# Altium schematic symbol library WE-RJ45 LAN.SchLib: 103 symbols (part 1 of 2)
Pins are listed as number, name and electrical type; pins without a type are passive.

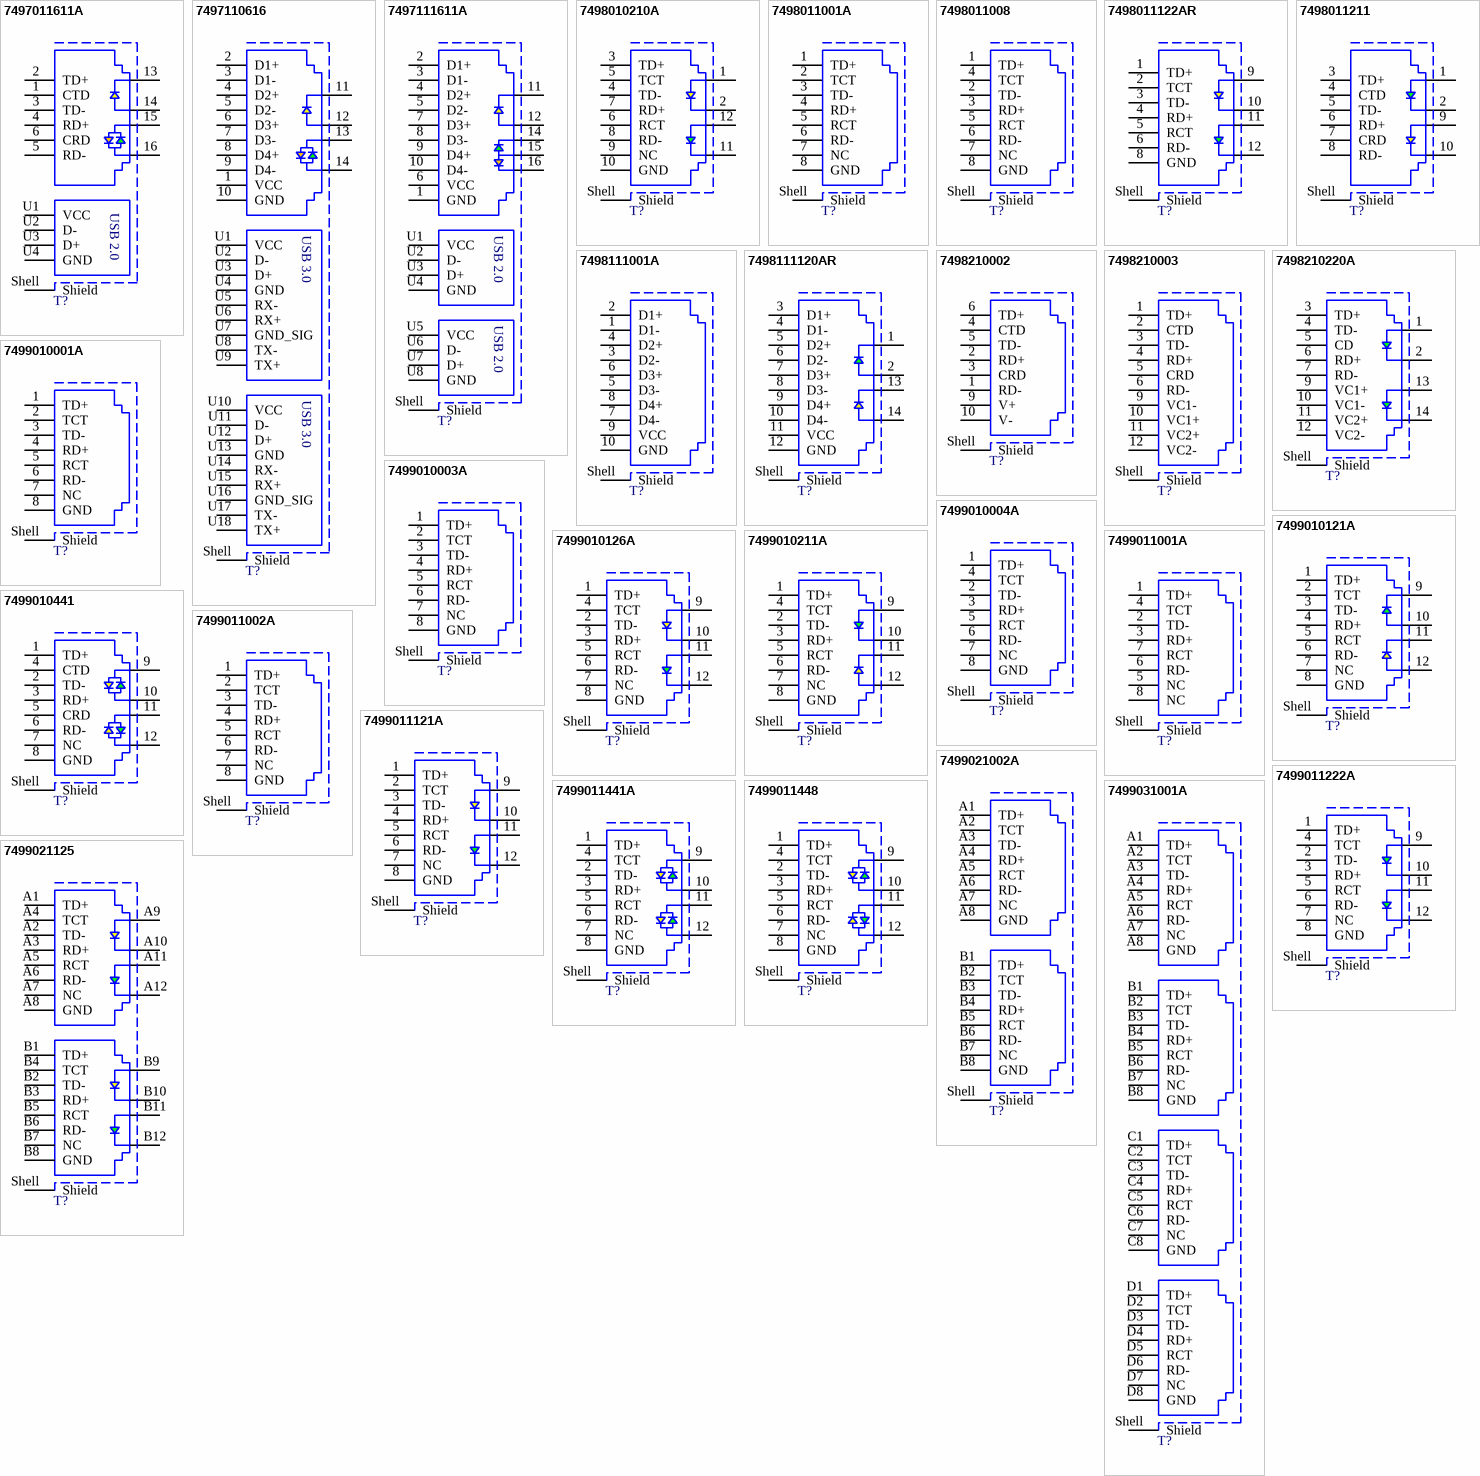
[diagram p0: symbols 7497011611A to 7499031001A]

## 7497011611A
designator T?  (value not drawn)
WE-RJ45 LAN Transformer, 1 Port, 10/100 Base-T, Tab Up; Manufacturer: Wurth Elektronik; LED: green/orange-yellow; Number of Ports: 1; PoE: non-PoE; Shield Tabs: Yes; USB: USB 2.0; Manufacturer Part Number: 7497011611A; Category: Filtered Connectors; Match Code: WE-RJ45 LAN; ComponentLink1Description: Website Link; ComponentLink1URL: https://www.we-online.com/redexpert/article/7497011611A?ad; ComponentLink2Description: Datasheet Link; ComponentLink2URL: https://www.we-online.com/redexpert/spec/7497011611A?ad; Mount: Through Hole; Operating Temperature Max: 85°C; Operating Temperature Min: -40°C; Packaging: Tape and Reel; Length: 29mm; Width: 16.25mm; Height: 21.3mm; Data Rate: 10/100 Base-T; Tab: Up
footprint 7497011611A
pins: 1 CTD, 2 TD+, 3 TD-, 4 RD+, 5 RD-, 6 CRD, 13, 14, 15, 16, Shell Shield, U1 VCC, U2 D-, U3 D+, U4 GND

## 7497110616
designator T?  (value not drawn)
WE-RJ45 LAN Transformer, 1 Port, 10/100/1000 Base-T, Tab Up; Manufacturer: Wurth Elektronik; LED: yellow/green-green; Number of Ports: 1; PoE: non-PoE; Shield Tabs: No; USB: 2xUSB 3.0; Manufacturer Part Number: 7497110616; Category: Filtered Connectors; Match Code: WE-RJ45 LAN; ComponentLink1Description: Website Link; ComponentLink1URL: https://www.we-online.com/redexpert/article/7497110616?ad; ComponentLink2Description: Datasheet Link; ComponentLink2URL: https://www.we-online.com/redexpert/spec/7497110616?ad; Mount: Through Hole; Operating Temperature Max: 85°C; Operating Temperature Min: -40°C; Packaging: Tray; Length: 33mm; Width: 19.5mm; Height: 32mm; Data Rate: 10/100/1000 Base-T; Tab: Up
footprint 7497110616
pins: 1 VCC, 2 D1+, 3 D1-, 4 D2+, 5 D2-, 6 D3+, 7 D3-, 8 D4+, 9 D4-, 10 GND, 11, 12, 13, 14, Shell Shield, U1 VCC, U2 D-, U3 D+, U4 GND, U5 RX-, U6 RX+, U7 GND_SIG, U8 TX-, U9 TX+, U10 VCC, U11 D-, U12 D+, U13 GND, U14 RX-, U15 RX+, U16 GND_SIG, U17 TX-, U18 TX+
text: USB 3.0

## 7497111611A
designator T?  (value not drawn)
WE-RJ45 LAN Transformer, 1 Port, 10/100/1000 Base-T, Tab Up; Manufacturer: Wurth Elektronik; LED: green/orange-yellow; Number of Ports: 1; PoE: non-PoE; Shield Tabs: Yes; USB: USB 2.0; Manufacturer Part Number: 7497111611A; Category: Filtered Connectors; Match Code: WE-RJ45 LAN; ComponentLink1Description: Website Link; ComponentLink1URL: https://www.we-online.com/redexpert/article/7497111611A?ad; ComponentLink2Description: Datasheet Link; ComponentLink2URL: https://www.we-online.com/redexpert/spec/7497111611A?ad; Mount: Through Hole; Operating Temperature Max: 70°C; Operating Temperature Min: 0°C; Packaging: Tube; Length: 26.09mm; Width: 17.09mm; Height: 29.67mm; Data Rate: 10/100/1000 Base-T; Tab: Up
footprint 7497111611A
pins: 1 GND, 2 D1+, 3 D1-, 4 D2+, 5 D2-, 6 VCC, 7 D3+, 8 D3-, 9 D4+, 10 D4-, 11, 12, 14, 15, 16, Shell Shield, U1 VCC, U2 D-, U3 D+, U4 GND, U5 VCC, U6 D-, U7 D+, U8 GND

## 7498010210A
designator T?  (value not drawn)
WE-RJ45 LAN Transformer, 1 Port, 10/100 Base-T, Tab Up; Manufacturer: Wurth Elektronik; LED: green-yellow; Number of Ports: 1; PoE: non-PoE; Shield Tabs: Yes; USB: No USB; Manufacturer Part Number: 7498010210A; Category: Filtered Connectors; Match Code: WE-RJ45 LAN; ComponentLink1Description: Website Link; ComponentLink1URL: https://www.we-online.com/redexpert/article/7498010210A?ad; ComponentLink2Description: Datasheet Link; ComponentLink2URL: https://www.we-online.com/redexpert/spec/7498010210A?ad; Mount: Surface Mount; Operating Temperature Max: 85°C; Operating Temperature Min: -40°C; Packaging: Tape and Reel; Length: 25.4mm; Width: 16.1mm; Height: 13.61mm; Data Rate: 10/100 Base-T; Tab: Up
footprint 7498010210A
pins: 1, 2, 3 TD+, 4 TD-, 5 TCT, 6 RCT, 7 RD+, 8 RD-, 9 NC, 10 GND, 11, 12, Shell Shield

## 7498011001A
designator T?  (value not drawn)
WE-RJ45 LAN Transformer, 1 Port, 10/100 Base-T, Tab Down; Manufacturer: Wurth Elektronik; LED: No LED; Number of Ports: 1; PoE: non-PoE; Shield Tabs: Yes; USB: No USB; Manufacturer Part Number: 7498011001A; Category: Filtered Connectors; Match Code: WE-RJ45 LAN; ComponentLink1Description: Website Link; ComponentLink1URL: https://www.we-online.com/redexpert/article/7498011001A?ad; ComponentLink2Description: Datasheet Link; ComponentLink2URL: https://www.we-online.com/redexpert/spec/7498011001A?ad; Mount: Surface Mount; Operating Temperature Max: 70°C; Operating Temperature Min: 0°C; Packaging: Tray; Length: 21.95mm; Width: 16.26mm; Height: 13.6mm; Data Rate: 10/100 Base-T; Tab: Down
footprint 7498011001A
pins: 1 TD+, 2 TCT, 3 TD-, 4 RD+, 5 RCT, 6 RD-, 7 NC, 8 GND, Shell Shield

## 7498011008
designator T?  (value not drawn)
WE-RJ45 LAN Transformer, 1 Port, 10/100 Base-T, Tab Down; Manufacturer: Wurth Elektronik; LED: No LED; Number of Ports: 1; PoE: non-PoE; Shield Tabs: Yes; USB: No USB; Manufacturer Part Number: 7498011008; Category: Filtered Connectors; Match Code: WE-RJ45 LAN; ComponentLink1Description: Website Link; ComponentLink1URL: https://www.we-online.com/redexpert/article/7498011008?ad; ComponentLink2Description: Datasheet Link; ComponentLink2URL: https://www.we-online.com/redexpert/spec/7498011008?ad; Mount: Surface Mount; Operating Temperature Max: 85°C; Operating Temperature Min: -40°C; Packaging: Tray; Length: 21.95mm; Width: 16.26mm; Height: 13.6mm; Data Rate: 10/100 Base-T; Tab: Down
footprint 7498011008
pins: 1 TD+, 2 TD-, 3 RD+, 4 TCT, 5 RCT, 6 RD-, 7 NC, 8 GND, Shell Shield

## 7498011122AR
designator T?  (value not drawn)
WE-RJ45 LAN Transformer, 1 Port, 10/100 Base-T, Tab Up; Manufacturer: Wurth Elektronik; LED: yellow-green; Number of Ports: 1; PoE: non-PoE; Shield Tabs: Yes; USB: No USB; Manufacturer Part Number: 7498011122AR; Category: Filtered Connectors; Match Code: WE-RJ45 LAN; ComponentLink1Description: Website Link; ComponentLink1URL: https://www.we-online.com/redexpert/article/7498011122AR?ad; ComponentLink2Description: Datasheet Link; ComponentLink2URL: https://www.we-online.com/redexpert/spec/7498011122AR?ad; Mount: Surface Mount; Operating Temperature Max: 85°C; Operating Temperature Min: -40°C; Packaging: Tape and Reel; Length: 21.84mm; Width: 15.65mm; Height: 11.3mm; Data Rate: 10/100 Base-T; Tab: Up
footprint 7498011122AR
pins: 1 TD+, 2 TCT, 3 TD-, 4 RD+, 5 RCT, 6 RD-, 8 GND, 9, 10, 11, 12, Shell Shield

## 7498011211
designator T?  (value not drawn)
WE-RJ45 LAN Transformer, 1 Port, 10/100 Base-T, Tab Down; Manufacturer: Wurth Elektronik; LED: green-yellow; Number of Ports: 1; PoE: non-PoE; Shield Tabs: Yes; USB: No USB; Manufacturer Part Number: 7498011211; Category: Filtered Connectors; Match Code: WE-RJ45 LAN; ComponentLink1Description: Website Link; ComponentLink1URL: https://www.we-online.com/redexpert/article/7498011211?ad; ComponentLink2Description: Datasheet Link; ComponentLink2URL: https://www.we-online.com/redexpert/spec/7498011211?ad; Mount: Surface Mount; Operating Temperature Max: 85°C; Operating Temperature Min: -40°C; Packaging: Tray; Length: 21.65mm; Width: 15.88mm; Height: 13.5mm; Data Rate: 10/100 Base-T; Tab: Down
footprint 7498011211
pins: 1, 2, 3 TD+, 4 CTD, 5 TD-, 6 RD+, 7 CRD, 8 RD-, 9, 10, Shell Shield

## 7498111001A
designator T?  (value not drawn)
WE-RJ45 LAN Transformer, 1 Port, 10/100/1000 Base-T, Tab Up; Manufacturer: Wurth Elektronik; LED: No LED; Number of Ports: 1; PoE: non-PoE; Shield Tabs: Yes; USB: No USB; Manufacturer Part Number: 7498111001A; Category: Filtered Connectors; Match Code: WE-RJ45 LAN; ComponentLink1Description: Website Link; ComponentLink1URL: https://www.we-online.com/redexpert/article/7498111001A?ad; ComponentLink2Description: Datasheet Link; ComponentLink2URL: https://www.we-online.com/redexpert/spec/7498111001A?ad; Mount: Surface Mount; Operating Temperature Max: 85°C; Operating Temperature Min: -40°C; Packaging: Tray; Length: 21.6mm; Width: 15.88mm; Height: 13.55mm; Data Rate: 10/100/1000 Base-T; Tab: Up
footprint 7498111001A
pins: 1 D1-, 2 D1+, 3 D2-, 4 D2+, 5 D3-, 6 D3+, 7 D4-, 8 D4+, 9 VCC, 10 GND, Shell Shield

## 7498111120AR
designator T?  (value not drawn)
WE-RJ45 LAN Transformer, 1 Port, 10/100/1000 Base-T, Tab Up; Manufacturer: Wurth Elektronik; LED: yellow-green; Number of Ports: 1; PoE: non-PoE; Shield Tabs: Yes; USB: No USB; Manufacturer Part Number: 7498111120AR; Category: Filtered Connectors; Match Code: WE-RJ45 LAN; ComponentLink1Description: Website Link; ComponentLink1URL: https://www.we-online.com/redexpert/article/7498111120AR?ad; ComponentLink2Description: Datasheet Link; ComponentLink2URL: https://www.we-online.com/redexpert/spec/7498111120AR?ad; Mount: Surface Mount; Operating Temperature Max: 85°C; Operating Temperature Min: -40°C; Packaging: Tape and Reel; Length: 21.84mm; Width: 15.65mm; Height: 11.3mm; Data Rate: 10/100/1000 Base-T; Tab: Up
footprint 7498111120AR
pins: 1, 2, 3 D1+, 4 D1-, 5 D2+, 6 D2-, 7 D3+, 8 D3-, 9 D4+, 10 D4-, 11 VCC, 12 GND, 13, 14, Shell Shield

## 7498210002
designator T?  (value not drawn)
WE-RJ45 LAN Transformer, 1 Port, 10/100 Base-T, Tab Down; Manufacturer: Wurth Elektronik; LED: No LED; Number of Ports: 1; PoE: PoE (up to 600 mA); Shield Tabs: No; USB: No USB; Manufacturer Part Number: 7498210002; Category: Filtered Connectors; Match Code: WE-RJ45 LAN; ComponentLink1Description: Website Link; ComponentLink1URL: https://www.we-online.com/redexpert/article/7498210002?ad; ComponentLink2Description: Datasheet Link; ComponentLink2URL: https://www.we-online.com/redexpert/spec/7498210002?ad; Mount: Surface Mount; Operating Temperature Max: 85°C; Operating Temperature Min: -40°C; Packaging: Tape and Reel; Length: 21.25mm; Width: 16mm; Height: 13.6mm; Data Rate: 10/100 Base-T; Tab: Down
footprint 7498210002
pins: 1 RD-, 2 RD+, 3 CRD, 4 CTD, 5 TD-, 6 TD+, 9 V+, 10 V-, Shell Shield

## 7498210003
designator T?  (value not drawn)
WE-RJ45 LAN Transformer, 1 Port, 10/100 Base-T, Tab Up; Manufacturer: Wurth Elektronik; LED: No LED; Number of Ports: 1; PoE: PoE (up to 350 mA); Shield Tabs: Yes; USB: No USB; Manufacturer Part Number: 7498210003; Category: Filtered Connectors; Match Code: WE-RJ45 LAN; ComponentLink1Description: Website Link; ComponentLink1URL: https://www.we-online.com/redexpert/article/7498210003?ad; ComponentLink2Description: Datasheet Link; ComponentLink2URL: https://www.we-online.com/redexpert/spec/7498210003?ad; Mount: Surface Mount; Operating Temperature Max: 85°C; Operating Temperature Min: -40°C; Packaging: Tray; Length: 21.84mm; Width: 15.65mm; Height: 11.3mm; Data Rate: 10/100 Base-T; Tab: Up
footprint 7498210003
pins: 1 TD+, 2 CTD, 3 TD-, 4 RD+, 5 CRD, 6 RD-, 9 VC1-, 10 VC1+, 11 VC2+, 12 VC2-, Shell Shield

## 7498210220A
designator T?  (value not drawn)
WE-RJ45 LAN Transformer, 1 Port, 10/100 Base-T, Tab Up; Manufacturer: Wurth Elektronik; LED: green-green; Number of Ports: 1; PoE: PoE (up to 350 mA); Shield Tabs: No; USB: No USB; Manufacturer Part Number: 7498210220A; Category: Filtered Connectors; Match Code: WE-RJ45 LAN; ComponentLink1Description: Website Link; ComponentLink1URL: https://www.we-online.com/redexpert/article/7498210220A?ad; ComponentLink2Description: Datasheet Link; ComponentLink2URL: https://www.we-online.com/redexpert/spec/7498210220A?ad; Mount: Surface Mount; Operating Temperature Max: 85°C; Operating Temperature Min: -40°C; Packaging: Tray; Length: 21.84mm; Width: 15.65mm; Height: 11.3mm; Data Rate: 10/100 Base-T; Tab: Up
footprint 7498210220A
pins: 1, 2, 3 TD+, 4 TD-, 5 CD, 6 RD+, 7 RD-, 9 VC1+, 10 VC1-, 11 VC2+, 12 VC2-, 13, 14, Shell Shield

## 7499010001A
designator T?  (value not drawn)
WE-RJ45 LAN Transformer, 1 Port, 10/100 Base-T, Tab Up; Manufacturer: Wurth Elektronik; LED: No LED; Number of Ports: 1; PoE: non-PoE; Shield Tabs: No; USB: No USB; Manufacturer Part Number: 7499010001A; Category: Filtered Connectors; Match Code: WE-RJ45 LAN; ComponentLink1Description: Website Link; ComponentLink1URL: https://www.we-online.com/redexpert/article/7499010001A?ad; ComponentLink2Description: Datasheet Link; ComponentLink2URL: https://www.we-online.com/redexpert/spec/7499010001A?ad; Mount: Through Hole; Operating Temperature Max: 70°C; Operating Temperature Min: 0°C; Packaging: Tube; Length: 25.3mm; Width: 16.2mm; Height: 13.5mm; Data Rate: 10/100 Base-T; Tab: Up
footprint 7499010001A
pins: 1 TD+, 2 TCT, 3 TD-, 4 RD+, 5 RCT, 6 RD-, 7 NC, 8 GND, Shell Shield

## 7499010003A
designator T?  (value not drawn)
WE-RJ45 LAN Transformer, 1 Port, 10/100 Base-T, Tab Up; Manufacturer: Wurth Elektronik; LED: No LED; Number of Ports: 1; PoE: non-PoE; Shield Tabs: No; USB: No USB; Manufacturer Part Number: 7499010003A; Category: Filtered Connectors; Match Code: WE-RJ45 LAN; ComponentLink1Description: Website Link; ComponentLink1URL: https://www.we-online.com/redexpert/article/7499010003A?ad; ComponentLink2Description: Datasheet Link; ComponentLink2URL: https://www.we-online.com/redexpert/spec/7499010003A?ad; Mount: Through Hole; Operating Temperature Max: 85°C; Operating Temperature Min: -40°C; Packaging: Tube; Length: 21.84mm; Width: 16.13mm; Height: 13.74mm; Data Rate: 10/100 Base-T; Tab: Up
footprint 7499010003A
pins: 1 TD+, 2 TCT, 3 TD-, 4 RD+, 5 RCT, 6 RD-, 7 NC, 8 GND, Shell Shield

## 7499010004A
designator T?  (value not drawn)
WE-RJ45 LAN Transformer, 1 Port, 10/100 Base-T, Tab Down; Manufacturer: Wurth Elektronik; LED: No LED; Number of Ports: 1; PoE: non-PoE; Shield Tabs: No; USB: No USB; Manufacturer Part Number: 7499010004A; Category: Filtered Connectors; Match Code: WE-RJ45 LAN; ComponentLink1Description: Website Link; ComponentLink1URL: https://www.we-online.com/redexpert/article/7499010004A?ad; ComponentLink2Description: Datasheet Link; ComponentLink2URL: https://www.we-online.com/redexpert/spec/7499010004A?ad; Mount: Through Hole; Operating Temperature Max: 70°C; Operating Temperature Min: 0°C; Packaging: Tube; Length: 21.59mm; Width: 16.04mm; Height: 13.74mm; Data Rate: 10/100 Base-T; Tab: Down
footprint 7499010004A
pins: 1 TD+, 2 TD-, 3 RD+, 4 TCT, 5 RCT, 6 RD-, 7 NC, 8 GND, Shell Shield

## 7499010121A
designator T?  (value not drawn)
WE-RJ45 LAN Transformer, 1 Port, 10/100 Base-T, Tab Up; Manufacturer: Wurth Elektronik; LED: yellow-green; Number of Ports: 1; PoE: non-PoE; Shield Tabs: No; USB: No USB; Manufacturer Part Number: 7499010121A; Category: Filtered Connectors; Match Code: WE-RJ45 LAN; ComponentLink1Description: Website Link; ComponentLink1URL: https://www.we-online.com/redexpert/article/7499010121A?ad; ComponentLink2Description: Datasheet Link; ComponentLink2URL: https://www.we-online.com/redexpert/spec/7499010121A?ad; Mount: Through Hole; Operating Temperature Max: 70°C; Operating Temperature Min: 0°C; Packaging: Tube; Length: 25.3mm; Width: 16.2mm; Height: 13.5mm; Data Rate: 10/100 Base-T; Tab: Up
footprint 7499010121A
pins: 1 TD+, 2 TCT, 3 TD-, 4 RD+, 5 RCT, 6 RD-, 7 NC, 8 GND, 9, 10, 11, 12, Shell Shield

## 7499010126A
designator T?  (value not drawn)
WE-RJ45 LAN Transformer, 1 Port, 10/100 Base-T, Tab Vertical; Manufacturer: Wurth Elektronik; LED: yellow-green; Number of Ports: 1; PoE: non-PoE; Shield Tabs: No; USB: No USB; Manufacturer Part Number: 7499010126A; Category: Filtered Connectors; Match Code: WE-RJ45 LAN; ComponentLink1Description: Website Link; ComponentLink1URL: https://www.we-online.com/redexpert/article/7499010126A?ad; ComponentLink2Description: Datasheet Link; ComponentLink2URL: https://www.we-online.com/redexpert/spec/7499010126A?ad; Mount: Through Hole; Operating Temperature Max: 85°C; Operating Temperature Min: -40°C; Packaging: Tray; Length: 21.84mm; Width: 15.95mm; Height: 16.9mm; Data Rate: 10/100 Base-T; Tab: Vertical
footprint 7499010126A
pins: 1 TD+, 2 TD-, 3 RD+, 4 TCT, 5 RCT, 6 RD-, 7 NC, 8 GND, 9, 10, 11, 12, Shell Shield

## 7499010211A
designator T?  (value not drawn)
WE-RJ45 LAN Transformer, 1 Port, 10/100 Base-T, Tab Down; Manufacturer: Wurth Elektronik; LED: green-yellow; Number of Ports: 1; PoE: non-PoE; Shield Tabs: No; USB: No USB; Manufacturer Part Number: 7499010211A; Category: Filtered Connectors; Match Code: WE-RJ45 LAN; ComponentLink1Description: Website Link; ComponentLink1URL: https://www.we-online.com/redexpert/article/7499010211A?ad; ComponentLink2Description: Datasheet Link; ComponentLink2URL: https://www.we-online.com/redexpert/spec/7499010211A?ad; Mount: Through Hole; Operating Temperature Max: 70°C; Operating Temperature Min: 0°C; Packaging: Tube; Length: 21.84mm; Width: 15.88mm; Height: 13.5mm; Data Rate: 10/100 Base-T; Tab: Down
footprint 7499010211A
pins: 1 TD+, 2 TD-, 3 RD+, 4 TCT, 5 RCT, 6 RD-, 7 NC, 8 GND, 9, 10, 11, 12, Shell Shield

## 7499010441
designator T?  (value not drawn)
WE-RJ45 LAN Transformer, 1 Port, 10/100 Base-T, Tab Down; Manufacturer: Wurth Elektronik; LED: yellow/green-yellow/green; Number of Ports: 1; PoE: non-PoE; Shield Tabs: No; USB: No USB; Manufacturer Part Number: 7499010441; Category: Filtered Connectors; Match Code: WE-RJ45 LAN; ComponentLink1Description: Website Link; ComponentLink1URL: https://www.we-online.com/redexpert/article/7499010441?ad; ComponentLink2Description: Datasheet Link; ComponentLink2URL: https://www.we-online.com/redexpert/spec/7499010441?ad; Mount: Through Hole; Operating Temperature Max: 85°C; Operating Temperature Min: -40°C; Packaging: Tube; Length: 21.3mm; Width: 16.04mm; Height: 13.5mm; Data Rate: 10/100 Base-T; Tab: Down
footprint 7499010441
pins: 1 TD+, 2 TD-, 3 RD+, 4 CTD, 5 CRD, 6 RD-, 7 NC, 8 GND, 9, 10, 11, 12, Shell Shield

## 7499011001A
designator T?  (value not drawn)
WE-RJ45 LAN Transformer, 1 Port, 10/100 Base-T, Tab Down; Manufacturer: Wurth Elektronik; LED: No LED; Number of Ports: 1; PoE: non-PoE; Shield Tabs: Yes; USB: No USB; Manufacturer Part Number: 7499011001A; Category: Filtered Connectors; Match Code: WE-RJ45 LAN; ComponentLink1Description: Website Link; ComponentLink1URL: https://www.we-online.com/redexpert/article/7499011001A?ad; ComponentLink2Description: Datasheet Link; ComponentLink2URL: https://www.we-online.com/redexpert/spec/7499011001A?ad; Mount: Through Hole; Operating Temperature Max: 70°C; Operating Temperature Min: 0°C; Packaging: Tube; Length: 21.84mm; Width: 15.88mm; Height: 13.95mm; Data Rate: 10/100 Base-T; Tab: Down
footprint 7499011001A
pins: 1 TD+, 2 TD-, 3 RD+, 4 TCT, 5 NC, 6 RD-, 7 RCT, 8 NC, Shell Shield

## 7499011002A
designator T?  (value not drawn)
WE-RJ45 LAN Transformer, 1 Port, 10/100 Base-T, Tab Down; Manufacturer: Wurth Elektronik; LED: No LED; Number of Ports: 1; PoE: non-PoE; Shield Tabs: Yes; USB: No USB; Manufacturer Part Number: 7499011002A; Category: Filtered Connectors; Match Code: WE-RJ45 LAN; ComponentLink1Description: Website Link; ComponentLink1URL: https://www.we-online.com/redexpert/article/7499011002A?ad; ComponentLink2Description: Datasheet Link; ComponentLink2URL: https://www.we-online.com/redexpert/spec/7499011002A?ad; Mount: Through Hole; Operating Temperature Max: 70°C; Operating Temperature Min: 0°C; Packaging: Tube; Length: 21.84mm; Width: 15.88mm; Height: 13.74mm; Data Rate: 10/100 Base-T; Tab: Down
footprint 7499011002A
pins: 1 TD+, 2 TCT, 3 TD-, 4 RD+, 5 RCT, 6 RD-, 7 NC, 8 GND, Shell Shield

## 7499011121A
designator T?  (value not drawn)
WE-RJ45 LAN Transformer, 1 Port, 10/100 Base-T, Tab Down; Manufacturer: Wurth Elektronik; LED: yellow-green; Number of Ports: 1; PoE: non-PoE; Shield Tabs: Yes; USB: No USB; Manufacturer Part Number: 7499011121A; Category: Filtered Connectors; Match Code: WE-RJ45 LAN; ComponentLink1Description: Website Link; ComponentLink1URL: https://www.we-online.com/redexpert/article/7499011121A?ad; ComponentLink2Description: Datasheet Link; ComponentLink2URL: https://www.we-online.com/redexpert/spec/7499011121A?ad; Mount: Through Hole; Operating Temperature Max: 85°C; Operating Temperature Min: -40°C; Packaging: Tube; Length: 21.84mm; Width: 15.88mm; Height: 13.74mm; Data Rate: 10/100 Base-T; Tab: Down
footprint 7499011121A
pins: 1 TD+, 2 TCT, 3 TD-, 4 RD+, 5 RCT, 6 RD-, 7 NC, 8 GND, 9, 10, 11, 12, Shell Shield

## 7499011222A
designator T?  (value not drawn)
WE-RJ45 LAN Transformer, 1 Port, 10/100 Base-T, Tab Down; Manufacturer: Wurth Elektronik; LED: green-green; Number of Ports: 1; PoE: non-PoE; Shield Tabs: Yes; USB: No USB; Manufacturer Part Number: 7499011222A; Category: Filtered Connectors; Match Code: WE-RJ45 LAN; ComponentLink1Description: Website Link; ComponentLink1URL: https://www.we-online.com/redexpert/article/7499011222A?ad; ComponentLink2Description: Datasheet Link; ComponentLink2URL: https://www.we-online.com/redexpert/spec/7499011222A?ad; Mount: Through Hole; Operating Temperature Max: 85°C; Operating Temperature Min: -40°C; Packaging: Tube; Length: 21.84mm; Width: 15.88mm; Height: 13.95mm; Data Rate: 10/100 Base-T; Tab: Down
footprint 7499011222A
pins: 1 TD+, 2 TD-, 3 RD+, 4 TCT, 5 RCT, 6 RD-, 7 NC, 8 GND, 9, 10, 11, 12, Shell Shield

## 7499011441A
designator T?  (value not drawn)
WE-RJ45 LAN Transformer, 1 Port, 10/100 Base-T, Tab Up; Manufacturer: Wurth Elektronik; LED: yellow/green-yellow/green; Number of Ports: 1; PoE: non-PoE; Shield Tabs: Yes; USB: No USB; Manufacturer Part Number: 7499011441A; Category: Filtered Connectors; Match Code: WE-RJ45 LAN; ComponentLink1Description: Website Link; ComponentLink1URL: https://www.we-online.com/redexpert/article/7499011441A?ad; ComponentLink2Description: Datasheet Link; ComponentLink2URL: https://www.we-online.com/redexpert/spec/7499011441A?ad; Mount: Through Hole; Operating Temperature Max: 85°C; Operating Temperature Min: -40°C; Packaging: Tube; Length: 25.3mm; Width: 16.2mm; Height: 13.5mm; Data Rate: 10/100 Base-T; Tab: Up
footprint 7499011441A
pins: 1 TD+, 2 TD-, 3 RD+, 4 TCT, 5 RCT, 6 RD-, 7 NC, 8 GND, 9, 10, 11, 12, Shell Shield

## 7499011448
designator T?  (value not drawn)
WE-RJ45 LAN Transformer, 1 Port, 10/100 Base-T, Tab Vertical; Manufacturer: Wurth Elektronik; LED: yellow/green-yellow/green; Number of Ports: 1; PoE: non-PoE; Shield Tabs: Yes; USB: No USB; Manufacturer Part Number: 7499011448; Category: Filtered Connectors; Match Code: WE-RJ45 LAN; ComponentLink1Description: Website Link; ComponentLink1URL: https://www.we-online.com/redexpert/article/7499011448?ad; ComponentLink2Description: Datasheet Link; ComponentLink2URL: https://www.we-online.com/redexpert/spec/7499011448?ad; Mount: Through Hole; Operating Temperature Max: 85°C; Operating Temperature Min: -40°C; Packaging: Tray; Length: 16.8mm; Width: 16mm; Height: 16.9mm; Data Rate: 10/100 Base-T; Tab: Vertical
footprint 7499011448
pins: 1 TD+, 2 TD-, 3 RD+, 4 TCT, 5 RCT, 6 RD-, 7 NC, 8 GND, 9, 10, 11, 12, Shell Shield

## 7499021002A
designator T?  (value not drawn)
WE-RJ45 LAN Transformer, 1x2 Port, 10/100 Base-T, Tab Down; Manufacturer: Wurth Elektronik; LED: No LED; PoE: non-PoE; Shield Tabs: Yes; USB: No USB; Manufacturer Part Number: 7499021002A; Category: Filtered Connectors; Match Code: WE-RJ45 LAN; ComponentLink1Description: Website Link; ComponentLink1URL: https://www.we-online.com/redexpert/article/7499021002A?ad; ComponentLink2Description: Datasheet Link; ComponentLink2URL: https://www.we-online.com/redexpert/spec/7499021002A?ad; Mount: Through Hole; Operating Temperature Max: 85°C; Operating Temperature Min: -40°C; Packaging: Tray; Length: 31.4mm; Width: 21.59mm; Height: 14.22mm; Data Rate: 10/100 Base-T; Number of Ports: 1x2; Tab: Down
footprint 7499021002A
pins: A1 TD+, A2 TCT, A3 TD-, A4 RD+, A5 RCT, A6 RD-, A7 NC, A8 GND, B1 TD+, B2 TCT, B3 TD-, B4 RD+, B5 RCT, B6 RD-, B7 NC, B8 GND, Shell Shield

## 7499021125
designator T?  (value not drawn)
WE-RJ45 LAN Transformer, 1x2 Port, 10/100 Base-T, Tab Down; Manufacturer: Wurth Elektronik; LED: yellow-green; PoE: non-PoE; Shield Tabs: Yes; USB: No USB; Manufacturer Part Number: 7499021125; Category: Filtered Connectors; Match Code: WE-RJ45 LAN; ComponentLink1Description: Website Link; ComponentLink1URL: https://www.we-online.com/redexpert/article/7499021125?ad; ComponentLink2Description: Datasheet Link; ComponentLink2URL: https://www.we-online.com/redexpert/spec/7499021125?ad; Mount: Through Hole; Operating Temperature Max: 85°C; Operating Temperature Min: -40°C; Packaging: Tube; Length: 31.4mm; Width: 21.5mm; Height: 13.6mm; Data Rate: 10/100 Base-T; Number of Ports: 1x2; Tab: Down
footprint 7499021125
pins: A1 TD+, A2 TD-, A3 RD+, A4 TCT, A5 RCT, A6 RD-, A7 NC, A8 GND, A9, A10, A11, A12, B1 TD+, B2 TD-, B3 RD+, B4 TCT, B5 RCT, B6 RD-, B7 NC, B8 GND, B9, B10, B11, B12, Shell Shield

## 7499031001A
designator T?  (value not drawn)
WE-RJ45 LAN Transformer, 1x4 Port, 10/100 Base-T, Tab Down; Manufacturer: Wurth Elektronik; LED: No LED; PoE: non-PoE; Shield Tabs: No; USB: No USB; Manufacturer Part Number: 7499031001A; Category: Filtered Connectors; Match Code: WE-RJ45 LAN; ComponentLink1Description: Website Link; ComponentLink1URL: https://www.we-online.com/redexpert/article/7499031001A?ad; ComponentLink2Description: Datasheet Link; ComponentLink2URL: https://www.we-online.com/redexpert/spec/7499031001A?ad; Mount: Through Hole; Operating Temperature Max: 85°C; Operating Temperature Min: -40°C; Packaging: Tube; Length: 59.13mm; Width: 21.84mm; Height: 13.5mm; Data Rate: 10/100 Base-T; Number of Ports: 1x4; Tab: Down
footprint 7499031001A
pins: A1 TD+, A2 TCT, A3 TD-, A4 RD+, A5 RCT, A6 RD-, A7 NC, A8 GND, B1 TD+, B2 TCT, B3 TD-, B4 RD+, B5 RCT, B6 RD-, B7 NC, B8 GND, C1 TD+, C2 TCT, C3 TD-, C4 RD+, C5 RCT, C6 RD-, C7 NC, C8 GND, D1 TD+, D2 TCT, D3 TD-, D4 RD+, D5 RCT, D6 RD-, D7 NC, D8 GND, Shell Shield

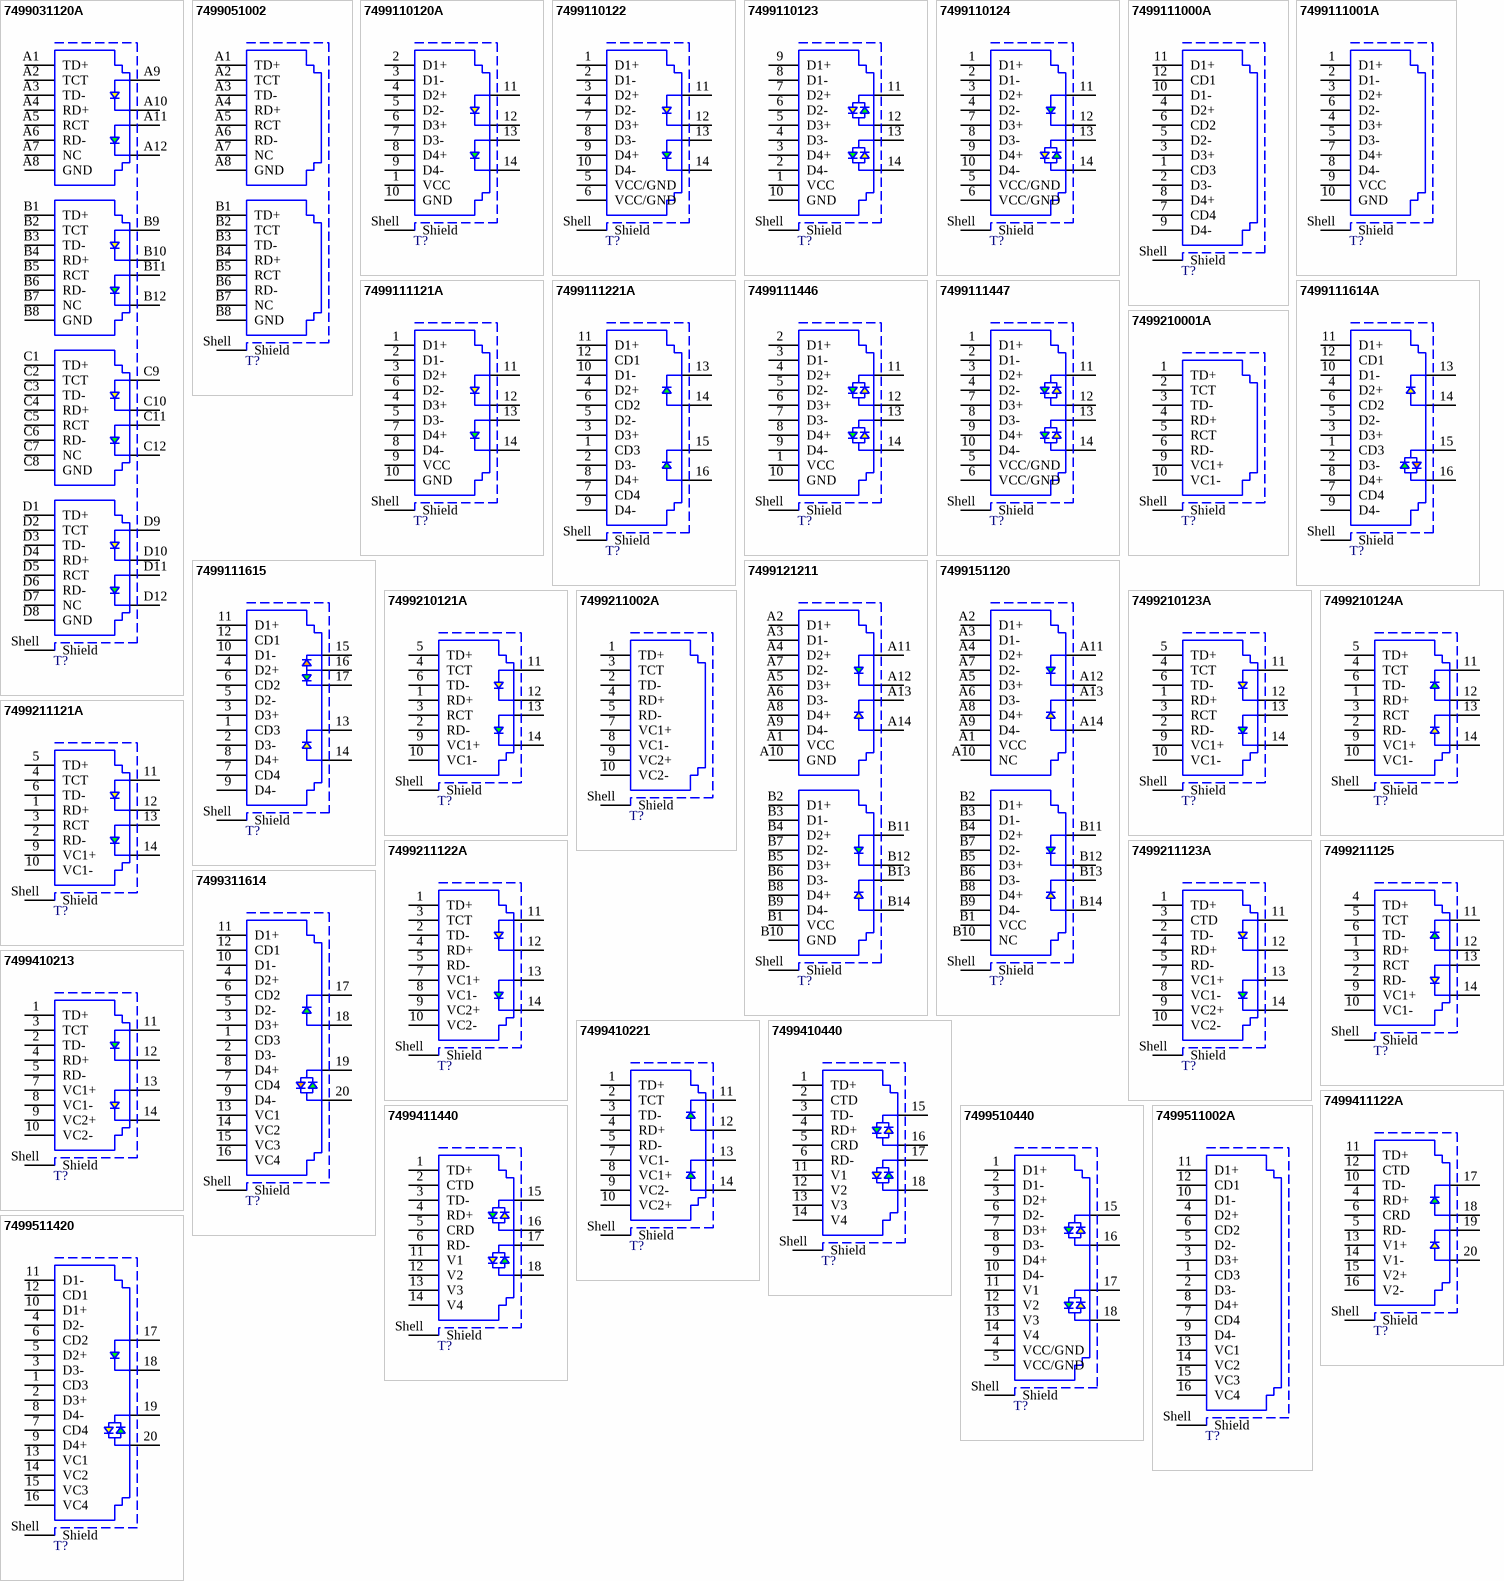
[diagram p1: symbols 7499031120A to 7499511420]

## 7499031120A
designator T?  (value not drawn)
WE-RJ45 LAN Transformer, 1x4 Port, 10/100 Base-T, Tab Down; Manufacturer: Wurth Elektronik; LED: yellow-green; PoE: non-PoE; Shield Tabs: Yes; USB: No USB; Manufacturer Part Number: 7499031120A; Category: Filtered Connectors; Match Code: WE-RJ45 LAN; ComponentLink1Description: Website Link; ComponentLink1URL: https://www.we-online.com/redexpert/article/7499031120A?ad; ComponentLink2Description: Datasheet Link; ComponentLink2URL: https://www.we-online.com/redexpert/spec/7499031120A?ad; Mount: Through Hole; Operating Temperature Max: 85°C; Operating Temperature Min: -40°C; Packaging: Tube; Length: 59.13mm; Width: 21.8mm; Height: 13.5mm; Data Rate: 10/100 Base-T; Number of Ports: 1x4; Tab: Down
footprint 7499031120A
pins: A1 TD+, A2 TCT, A3 TD-, A4 RD+, A5 RCT, A6 RD-, A7 NC, A8 GND, A9, A10, A11, A12, B1 TD+, B2 TCT, B3 TD-, B4 RD+, B5 RCT, B6 RD-, B7 NC, B8 GND, B9, B10, B11, B12, C1 TD+, C2 TCT, C3 TD-, C4 RD+, C5 RCT, C6 RD-, C7 NC, C8 GND, C9, C10, C11, C12, D1 TD+, D2 TCT, D3 TD-, D4 RD+, D5 RCT, D6 RD-, D7 NC, D8 GND, D9, D10, D11, D12, Shell Shield

## 7499051002
designator T?  (value not drawn)
WE-RJ45 LAN Transformer, 2x1 Port, 10/100 Base-T, Tab Up/Down; Manufacturer: Wurth Elektronik; LED: No LED; PoE: non-PoE; Shield Tabs: Yes; USB: No USB; Manufacturer Part Number: 7499051002; Category: Filtered Connectors; Match Code: WE-RJ45 LAN; ComponentLink1Description: Website Link; ComponentLink1URL: https://www.we-online.com/redexpert/article/7499051002?ad; ComponentLink2Description: Datasheet Link; ComponentLink2URL: https://www.we-online.com/redexpert/spec/7499051002?ad; Mount: Through Hole; Operating Temperature Max: 85°C; Operating Temperature Min: -40°C; Packaging: Tube; Length: 28.25mm; Width: 17.27mm; Height: 25.2mm; Data Rate: 10/100 Base-T; Number of Ports: 2x1; Tab: Up/Down
footprint 7499051002
pins: A1 TD+, A2 TCT, A3 TD-, A4 RD+, A5 RCT, A6 RD-, A7 NC, A8 GND, B1 TD+, B2 TCT, B3 TD-, B4 RD+, B5 RCT, B6 RD-, B7 NC, B8 GND, Shell Shield

## 7499110120A
designator T?  (value not drawn)
WE-RJ45 LAN Transformer, 1 Port, 10/100/1000 Base-T, Tab Vertical; Manufacturer: Wurth Elektronik; LED: yellow-green; Number of Ports: 1; PoE: non-PoE; Shield Tabs: No; USB: No USB; Manufacturer Part Number: 7499110120A; Category: Filtered Connectors; Match Code: WE-RJ45 LAN; ComponentLink1Description: Website Link; ComponentLink1URL: https://www.we-online.com/redexpert/article/7499110120A?ad; ComponentLink2Description: Datasheet Link; ComponentLink2URL: https://www.we-online.com/redexpert/spec/7499110120A?ad; Mount: Through Hole; Operating Temperature Max: 85°C; Operating Temperature Min: -40°C; Packaging: Tray; Length: 21.84mm; Width: 15.95mm; Height: 16.9mm; Data Rate: 10/100/1000 Base-T; Tab: Vertical
footprint 7499110120A
pins: 1 VCC, 2 D1+, 3 D1-, 4 D2+, 5 D2-, 6 D3+, 7 D3-, 8 D4+, 9 D4-, 10 GND, 11, 12, 13, 14, Shell Shield

## 7499110122
designator T?  (value not drawn)
WE-RJ45 LAN Transformer, 1 Port, 10/100/1000 Base-T, Tab Down; Manufacturer: Wurth Elektronik; LED: yellow-green; Number of Ports: 1; PoE: non-PoE; Shield Tabs: No; USB: No USB; Manufacturer Part Number: 7499110122; Category: Filtered Connectors; Match Code: WE-RJ45 LAN; ComponentLink1Description: Website Link; ComponentLink1URL: https://www.we-online.com/redexpert/article/7499110122?ad; ComponentLink2Description: Datasheet Link; ComponentLink2URL: https://www.we-online.com/redexpert/spec/7499110122?ad; Mount: Through Hole; Operating Temperature Max: 70°C; Operating Temperature Min: 0°C; Packaging: Tube; Length: 21.3mm; Width: 16.04mm; Height: 13.5mm; Data Rate: 10/100/1000 Base-T; Tab: Down
footprint 7499110122
pins: 1 D1+, 2 D1-, 3 D2+, 4 D2-, 5 VCC/GND, 6 VCC/GND, 7 D3+, 8 D3-, 9 D4+, 10 D4-, 11, 12, 13, 14, Shell Shield

## 7499110123
designator T?  (value not drawn)
WE-RJ45 LAN Transformer, 1 Port, 10/100/1000 Base-T, Tab Vertical; Manufacturer: Wurth Elektronik; LED: green-yellow; Number of Ports: 1; PoE: non-PoE; Shield Tabs: No; USB: No USB; Manufacturer Part Number: 7499110123; Category: Filtered Connectors; Match Code: WE-RJ45 LAN; ComponentLink1Description: Website Link; ComponentLink1URL: https://www.we-online.com/redexpert/article/7499110123?ad; ComponentLink2Description: Datasheet Link; ComponentLink2URL: https://www.we-online.com/redexpert/spec/7499110123?ad; Mount: Through Hole; Operating Temperature Max: 85°C; Operating Temperature Min: -40°C; Packaging: Tube; Length: 23.6mm; Width: 16.6mm; Height: 17.1mm; Data Rate: 10/100/1000 Base-T; Tab: Vertical
footprint 7499110123
pins: 1 VCC, 2 D4-, 3 D4+, 4 D3-, 5 D3+, 6 D2-, 7 D2+, 8 D1-, 9 D1+, 10 GND, 11, 12, 13, 14, Shell Shield

## 7499110124
designator T?  (value not drawn)
WE-RJ45 LAN Transformer, 1 Port, 10/100/1000 Base-T, Tab Up; Manufacturer: Wurth Elektronik; LED: green-yellow/green; Number of Ports: 1; PoE: non-PoE; Shield Tabs: No; USB: No USB; Manufacturer Part Number: 7499110124; Category: Filtered Connectors; Match Code: WE-RJ45 LAN; ComponentLink1Description: Website Link; ComponentLink1URL: https://www.we-online.com/redexpert/article/7499110124?ad; ComponentLink2Description: Datasheet Link; ComponentLink2URL: https://www.we-online.com/redexpert/spec/7499110124?ad; Mount: Through Hole; Operating Temperature Max: 85°C; Operating Temperature Min: -40°C; Packaging: Tube; Length: 25.3mm; Width: 16.2mm; Height: 13.5mm; Data Rate: 10/100/1000 Base-T; Tab: Up
footprint 7499110124
pins: 1 D1+, 2 D1-, 3 D2+, 4 D2-, 5 VCC/GND, 6 VCC/GND, 7 D3+, 8 D3-, 9 D4+, 10 D4-, 11, 12, 13, 14, Shell Shield

## 7499111000A
designator T?  (value not drawn)
WE-RJ45 LAN Transformer, 1 Port, 1000 Base-T, Tab Up; Manufacturer: Wurth Elektronik; LED: No LED; Number of Ports: 1; PoE: non-PoE; Shield Tabs: Yes; USB: No USB; Manufacturer Part Number: 7499111000A; Category: Filtered Connectors; Match Code: WE-RJ45 LAN; ComponentLink1Description: Website Link; ComponentLink1URL: https://www.we-online.com/redexpert/article/7499111000A?ad; ComponentLink2Description: Datasheet Link; ComponentLink2URL: https://www.we-online.com/redexpert/spec/7499111000A?ad; Mount: Through Hole; Operating Temperature Max: 70°C; Operating Temperature Min: 0°C; Packaging: Tube; Length: 33.02mm; Width: 16.79mm; Height: 14.5mm; Data Rate: 1000 Base-T; Tab: Up
footprint 7499111000A
pins: 1 CD3, 2 D3-, 3 D3+, 4 D2+, 5 D2-, 6 CD2, 7 CD4, 8 D4+, 9 D4-, 10 D1-, 11 D1+, 12 CD1, Shell Shield

## 7499111001A
designator T?  (value not drawn)
WE-RJ45 LAN Transformer, 1 Port, 10/100/1000 Base-T, Tab Down; Manufacturer: Wurth Elektronik; LED: No LED; Number of Ports: 1; PoE: non-PoE; Shield Tabs: Yes; USB: No USB; Manufacturer Part Number: 7499111001A; Category: Filtered Connectors; Match Code: WE-RJ45 LAN; ComponentLink1Description: Website Link; ComponentLink1URL: https://www.we-online.com/redexpert/article/7499111001A?ad; ComponentLink2Description: Datasheet Link; ComponentLink2URL: https://www.we-online.com/redexpert/spec/7499111001A?ad; Mount: Through Hole; Operating Temperature Max: 70°C; Operating Temperature Min: 0°C; Packaging: Tube; Length: 21.84mm; Width: 16mm; Height: 13.95mm; Data Rate: 10/100/1000 Base-T; Tab: Down
footprint 7499111001A
pins: 1 D1+, 2 D1-, 3 D2+, 4 D3+, 5 D3-, 6 D2-, 7 D4+, 8 D4-, 9 VCC, 10 GND, Shell Shield

## 7499111121A
designator T?  (value not drawn)
WE-RJ45 LAN Transformer, 1 Port, 10/100/1000 Base-T, Tab Down; Manufacturer: Wurth Elektronik; LED: yellow-green; Number of Ports: 1; PoE: non-PoE; Shield Tabs: Yes; USB: No USB; Manufacturer Part Number: 7499111121A; Category: Filtered Connectors; Match Code: WE-RJ45 LAN; ComponentLink1Description: Website Link; ComponentLink1URL: https://www.we-online.com/redexpert/article/7499111121A?ad; ComponentLink2Description: Datasheet Link; ComponentLink2URL: https://www.we-online.com/redexpert/spec/7499111121A?ad; Mount: Through Hole; Operating Temperature Max: 85°C; Operating Temperature Min: -40°C; Packaging: Tube; Length: 21.84mm; Width: 15.88mm; Height: 13.95mm; Data Rate: 10/100/1000 Base-T; Tab: Down
footprint 7499111121A
pins: 1 D1+, 2 D1-, 3 D2+, 4 D3+, 5 D3-, 6 D2-, 7 D4+, 8 D4-, 9 VCC, 10 GND, 11, 12, 13, 14, Shell Shield

## 7499111221A
designator T?  (value not drawn)
WE-RJ45 LAN Transformer, 1 Port, 1000 Base-T, Tab Up; Manufacturer: Wurth Elektronik; LED: green-green; Number of Ports: 1; PoE: non-PoE; Shield Tabs: Yes; USB: No USB; Manufacturer Part Number: 7499111221A; Category: Filtered Connectors; Match Code: WE-RJ45 LAN; ComponentLink1Description: Website Link; ComponentLink1URL: https://www.we-online.com/redexpert/article/7499111221A?ad; ComponentLink2Description: Datasheet Link; ComponentLink2URL: https://www.we-online.com/redexpert/spec/7499111221A?ad; Mount: Through Hole; Operating Temperature Max: 70°C; Operating Temperature Min: 0°C; Packaging: Tube; Length: 33.02mm; Width: 16.79mm; Height: 13.9mm; Data Rate: 1000 Base-T; Tab: Up
footprint 7499111221A
pins: 1 CD3, 2 D3-, 3 D3+, 4 D2+, 5 D2-, 6 CD2, 7 CD4, 8 D4+, 9 D4-, 10 D1-, 11 D1+, 12 CD1, 13, 14, 15, 16, Shell Shield

## 7499111446
designator T?  (value not drawn)
WE-RJ45 LAN Transformer, 1 Port, 10/100/1000 Base-T, Tab Down; Manufacturer: Wurth Elektronik; LED: green/yellow-green/yellow; Number of Ports: 1; PoE: non-PoE; Shield Tabs: Yes; USB: No USB; Manufacturer Part Number: 7499111446; Category: Filtered Connectors; Match Code: WE-RJ45 LAN; ComponentLink1Description: Website Link; ComponentLink1URL: https://www.we-online.com/redexpert/article/7499111446?ad; ComponentLink2Description: Datasheet Link; ComponentLink2URL: https://www.we-online.com/redexpert/spec/7499111446?ad; Mount: Through Hole; Operating Temperature Max: 85°C; Operating Temperature Min: -40°C; Packaging: Tube; Length: 21.84mm; Width: 15.88mm; Height: 13.95mm; Data Rate: 10/100/1000 Base-T; Tab: Down
footprint 7499111446
pins: 1 VCC, 2 D1+, 3 D1-, 4 D2+, 5 D2-, 6 D3+, 7 D3-, 8 D4+, 9 D4-, 10 GND, 11, 12, 13, 14, Shell Shield

## 7499111447
designator T?  (value not drawn)
WE-RJ45 LAN Transformer, 1 Port, 10/100/1000 Base-T, Tab Up; Manufacturer: Wurth Elektronik; LED: green/yellow-green/yellow; Number of Ports: 1; PoE: non-PoE; Shield Tabs: Yes; USB: No USB; Manufacturer Part Number: 7499111447; Category: Filtered Connectors; Match Code: WE-RJ45 LAN; ComponentLink1Description: Website Link; ComponentLink1URL: https://www.we-online.com/redexpert/article/7499111447?ad; ComponentLink2Description: Datasheet Link; ComponentLink2URL: https://www.we-online.com/redexpert/spec/7499111447?ad; Mount: Through Hole; Operating Temperature Max: 85°C; Operating Temperature Min: -40°C; Packaging: Tube; Length: 21.3mm; Width: 16mm; Height: 13.55mm; Data Rate: 10/100/1000 Base-T; Tab: Up
footprint 7499111447
pins: 1 D1+, 2 D1-, 3 D2+, 4 D2-, 5 VCC/GND, 6 VCC/GND, 7 D3+, 8 D3-, 9 D4+, 10 D4-, 11, 12, 13, 14, Shell Shield

## 7499111614A
designator T?  (value not drawn)
WE-RJ45 LAN Transformer, 1 Port, 1000 Base-T, Tab Up; Manufacturer: Wurth Elektronik; LED: green/orange-yellow; Number of Ports: 1; PoE: non-PoE; Shield Tabs: Yes; USB: No USB; Manufacturer Part Number: 7499111614A; Category: Filtered Connectors; Match Code: WE-RJ45 LAN; ComponentLink1Description: Website Link; ComponentLink1URL: https://www.we-online.com/redexpert/article/7499111614A?ad; ComponentLink2Description: Datasheet Link; ComponentLink2URL: https://www.we-online.com/redexpert/spec/7499111614A?ad; Mount: Through Hole; Operating Temperature Max: 85°C; Operating Temperature Min: -40°C; Packaging: Tube; Length: 33.02mm; Width: 16.87mm; Height: 13.87mm; Data Rate: 1000 Base-T; Tab: Up
footprint 7499111614A
pins: 1 CD3, 2 D3-, 3 D3+, 4 D2+, 5 D2-, 6 CD2, 7 CD4, 8 D4+, 9 D4-, 10 D1-, 11 D1+, 12 CD1, 13, 14, 15, 16, Shell Shield

## 7499111615
designator T?  (value not drawn)
WE-RJ45 LAN Transformer, 1 Port, 1000 Base-T, Tab Up; Manufacturer: Wurth Elektronik; LED: green/orange-yellow; Number of Ports: 1; PoE: non-PoE; Shield Tabs: Yes; USB: No USB; Manufacturer Part Number: 7499111615; Category: Filtered Connectors; Match Code: WE-RJ45 LAN; ComponentLink1Description: Website Link; ComponentLink1URL: https://www.we-online.com/redexpert/article/7499111615?ad; ComponentLink2Description: Datasheet Link; ComponentLink2URL: https://www.we-online.com/redexpert/spec/7499111615?ad; Mount: Through Hole; Operating Temperature Max: 85°C; Operating Temperature Min: -40°C; Packaging: Tray; Length: 24.6mm; Width: 17.78mm; Height: 11.3mm; Data Rate: 1000 Base-T; Tab: Up
footprint 7499111615
pins: 1 CD3, 2 D3-, 3 D3+, 4 D2+, 5 D2-, 6 CD2, 7 CD4, 8 D4+, 9 D4-, 10 D1-, 11 D1+, 12 CD1, 13, 14, 15, 16, 17, Shell Shield

## 7499121211
designator T?  (value not drawn)
WE-RJ45 LAN Transformer, 1x2 Port, 10/100/1000 Base-T, Tab Down; Manufacturer: Wurth Elektronik; LED: green-yellow; PoE: non-PoE; Shield Tabs: Yes; USB: No USB; Manufacturer Part Number: 7499121211; Category: Filtered Connectors; Match Code: WE-RJ45 LAN; ComponentLink1Description: Website Link; ComponentLink1URL: https://www.we-online.com/redexpert/article/7499121211?ad; ComponentLink2Description: Datasheet Link; ComponentLink2URL: https://www.we-online.com/redexpert/spec/7499121211?ad; Mount: Through Hole; Operating Temperature Max: 85°C; Operating Temperature Min: -40°C; Packaging: Tube; Length: 31.4mm; Width: 21.5mm; Height: 13.6mm; Data Rate: 10/100/1000 Base-T; Number of Ports: 1x2; Tab: Down
footprint 7499121211
pins: A1 VCC, A2 D1+, A3 D1-, A4 D2+, A5 D3+, A6 D3-, A7 D2-, A8 D4+, A9 D4-, A10 GND, A11, A12, A13, A14, B1 VCC, B2 D1+, B3 D1-, B4 D2+, B5 D3+, B6 D3-, B7 D2-, B8 D4+, B9 D4-, B10 GND, B11, B12, B13, B14, Shell Shield

## 7499151120
designator T?  (value not drawn)
WE-RJ45 LAN Transformer, 2x1 Port, 10/100/1000 Base-T, Tab Up/Down; Manufacturer: Wurth Elektronik; LED: yellow-green; PoE: non-PoE; Shield Tabs: Yes; USB: No USB; Manufacturer Part Number: 7499151120; Category: Filtered Connectors; Match Code: WE-RJ45 LAN; ComponentLink1Description: Website Link; ComponentLink1URL: https://www.we-online.com/redexpert/article/7499151120?ad; ComponentLink2Description: Datasheet Link; ComponentLink2URL: https://www.we-online.com/redexpert/spec/7499151120?ad; Mount: Through Hole; Operating Temperature Max: 85°C; Operating Temperature Min: -40°C; Packaging: Tray; Length: 28.3mm; Width: 17.09mm; Height: 25.25mm; Data Rate: 10/100/1000 Base-T; Number of Ports: 2x1; Tab: Up/Down
footprint 7499151120
pins: A1 VCC, A2 D1+, A3 D1-, A4 D2+, A5 D3+, A6 D3-, A7 D2-, A8 D4+, A9 D4-, A10 NC, A11, A12, A13, A14, B1 VCC, B2 D1+, B3 D1-, B4 D2+, B5 D3+, B6 D3-, B7 D2-, B8 D4+, B9 D4-, B10 NC, B11, B12, B13, B14, Shell Shield

## 7499210001A
designator T?  (value not drawn)
WE-RJ45 LAN Transformer, 1 Port, 10/100 Base-T, Tab Up; Manufacturer: Wurth Elektronik; LED: No LED; Number of Ports: 1; PoE: PoE (up to 350 mA); Shield Tabs: No; USB: No USB; Manufacturer Part Number: 7499210001A; Category: Filtered Connectors; Match Code: WE-RJ45 LAN; ComponentLink1Description: Website Link; ComponentLink1URL: https://www.we-online.com/redexpert/article/7499210001A?ad; ComponentLink2Description: Datasheet Link; ComponentLink2URL: https://www.we-online.com/redexpert/spec/7499210001A?ad; Mount: Through Hole; Operating Temperature Max: 85°C; Operating Temperature Min: -40°C; Packaging: Tube; Length: 21.3mm; Width: 16mm; Height: 13.8mm; Data Rate: 10/100 Base-T; Tab: Up
footprint 7499210001A
pins: 1 TD+, 2 TCT, 3 TD-, 4 RD+, 5 RCT, 6 RD-, 9 VC1+, 10 VC1-, Shell Shield

## 7499210121A
designator T?  (value not drawn)
WE-RJ45 LAN Transformer, 1 Port, 10/100 Base-T, Tab Down; Manufacturer: Wurth Elektronik; LED: yellow-green; Number of Ports: 1; PoE: PoE (up to 350 mA); Shield Tabs: No; USB: No USB; Manufacturer Part Number: 7499210121A; Category: Filtered Connectors; Match Code: WE-RJ45 LAN; ComponentLink1Description: Website Link; ComponentLink1URL: https://www.we-online.com/redexpert/article/7499210121A?ad; ComponentLink2Description: Datasheet Link; ComponentLink2URL: https://www.we-online.com/redexpert/spec/7499210121A?ad; Mount: Through Hole; Operating Temperature Max: 85°C; Operating Temperature Min: -40°C; Packaging: Tube; Length: 21.84mm; Width: 15.88mm; Height: 13.95mm; Data Rate: 10/100 Base-T; Tab: Down
footprint 7499210121A
pins: 1 RD+, 2 RD-, 3 RCT, 4 TCT, 5 TD+, 6 TD-, 9 VC1+, 10 VC1-, 11, 12, 13, 14, Shell Shield

## 7499210123A
designator T?  (value not drawn)
WE-RJ45 LAN Transformer, 1 Port, 10/100 Base-T, Tab Vertical; Manufacturer: Wurth Elektronik; LED: yellow-green; Number of Ports: 1; PoE: PoE (up to 350 mA); Shield Tabs: No; USB: No USB; Manufacturer Part Number: 7499210123A; Category: Filtered Connectors; Match Code: WE-RJ45 LAN; ComponentLink1Description: Website Link; ComponentLink1URL: https://www.we-online.com/redexpert/article/7499210123A?ad; ComponentLink2Description: Datasheet Link; ComponentLink2URL: https://www.we-online.com/redexpert/spec/7499210123A?ad; Mount: Through Hole; Operating Temperature Max: 85°C; Operating Temperature Min: -40°C; Packaging: Tray; Length: 21.84mm; Width: 15.95mm; Height: 16.9mm; Data Rate: 10/100 Base-T; Tab: Vertical
footprint 7499210123A
pins: 1 RD+, 2 RD-, 3 RCT, 4 TCT, 5 TD+, 6 TD-, 9 VC1+, 10 VC1-, 11, 12, 13, 14, Shell Shield

## 7499210124A
designator T?  (value not drawn)
WE-RJ45 LAN Transformer, 1 Port, 10/100 Base-T, Tab Up; Manufacturer: Wurth Elektronik; LED: yellow-green; Number of Ports: 1; PoE: PoE (up to 350 mA); Shield Tabs: No; USB: No USB; Manufacturer Part Number: 7499210124A; Category: Filtered Connectors; Match Code: WE-RJ45 LAN; ComponentLink1Description: Website Link; ComponentLink1URL: https://www.we-online.com/redexpert/article/7499210124A?ad; ComponentLink2Description: Datasheet Link; ComponentLink2URL: https://www.we-online.com/redexpert/spec/7499210124A?ad; Mount: Through Hole; Operating Temperature Max: 85°C; Operating Temperature Min: -40°C; Packaging: Tube; Length: 25.3mm; Width: 16.2mm; Height: 13.5mm; Data Rate: 10/100 Base-T; Tab: Up
footprint 7499210124A
pins: 1 RD+, 2 RD-, 3 RCT, 4 TCT, 5 TD+, 6 TD-, 9 VC1+, 10 VC1-, 11, 12, 13, 14, Shell Shield

## 7499211002A
designator T?  (value not drawn)
WE-RJ45 LAN Transformer, 1 Port, 10/100 Base-T, Tab Down; Manufacturer: Wurth Elektronik; LED: No LED; Number of Ports: 1; PoE: PoE (up to 350 mA); Shield Tabs: Yes; USB: No USB; Manufacturer Part Number: 7499211002A; Category: Filtered Connectors; Match Code: WE-RJ45 LAN; ComponentLink1Description: Website Link; ComponentLink1URL: https://www.we-online.com/redexpert/article/7499211002A?ad; ComponentLink2Description: Datasheet Link; ComponentLink2URL: https://www.we-online.com/redexpert/spec/7499211002A?ad; Mount: Through Hole; Operating Temperature Max: 70°C; Operating Temperature Min: 0°C; Packaging: Tube; Length: 21.84mm; Width: 15.88mm; Height: 13.74mm; Data Rate: 10/100 Base-T; Tab: Down
footprint 7499211002A
pins: 1 TD+, 2 TD-, 3 TCT, 4 RD+, 5 RD-, 7 VC1+, 8 VC1-, 9 VC2+, 10 VC2-, Shell Shield

## 7499211121A
designator T?  (value not drawn)
WE-RJ45 LAN Transformer, 1 Port, 10/100 Base-T, Tab Down; Manufacturer: Wurth Elektronik; LED: yellow-green; Number of Ports: 1; PoE: PoE (up to 350 mA); Shield Tabs: Yes; USB: No USB; Manufacturer Part Number: 7499211121A; Category: Filtered Connectors; Match Code: WE-RJ45 LAN; ComponentLink1Description: Website Link; ComponentLink1URL: https://www.we-online.com/redexpert/article/7499211121A?ad; ComponentLink2Description: Datasheet Link; ComponentLink2URL: https://www.we-online.com/redexpert/spec/7499211121A?ad; Mount: Through Hole; Operating Temperature Max: 85°C; Operating Temperature Min: -40°C; Packaging: Tube; Length: 21.84mm; Width: 15.88mm; Height: 13.95mm; Data Rate: 10/100 Base-T; Tab: Down
footprint 7499211121A
pins: 1 RD+, 2 RD-, 3 RCT, 4 TCT, 5 TD+, 6 TD-, 9 VC1+, 10 VC1-, 11, 12, 13, 14, Shell Shield

## 7499211122A
designator T?  (value not drawn)
WE-RJ45 LAN Transformer, 1 Port, 10/100 Base-T, Tab Down; Manufacturer: Wurth Elektronik; LED: yellow-green; Number of Ports: 1; PoE: PoE (up to 350 mA); Shield Tabs: Yes; USB: No USB; Manufacturer Part Number: 7499211122A; Category: Filtered Connectors; Match Code: WE-RJ45 LAN; ComponentLink1Description: Website Link; ComponentLink1URL: https://www.we-online.com/redexpert/article/7499211122A?ad; ComponentLink2Description: Datasheet Link; ComponentLink2URL: https://www.we-online.com/redexpert/spec/7499211122A?ad; Mount: Through Hole; Operating Temperature Max: 70°C; Operating Temperature Min: 0°C; Packaging: Tube; Length: 21.84mm; Width: 15.88mm; Height: 13.74mm; Data Rate: 10/100 Base-T; Tab: Down
footprint 7499211122A
pins: 1 TD+, 2 TD-, 3 TCT, 4 RD+, 5 RD-, 7 VC1+, 8 VC1-, 9 VC2+, 10 VC2-, 11, 12, 13, 14, Shell Shield

## 7499211123A
designator T?  (value not drawn)
WE-RJ45 LAN Transformer, 1 Port, 10/100 Base-T, Tab Down; Manufacturer: Wurth Elektronik; LED: yellow-green; Number of Ports: 1; PoE: PoE (up to 350 mA); Shield Tabs: Yes; USB: No USB; Manufacturer Part Number: 7499211123A; Category: Filtered Connectors; Match Code: WE-RJ45 LAN; ComponentLink1Description: Website Link; ComponentLink1URL: https://www.we-online.com/redexpert/article/7499211123A?ad; ComponentLink2Description: Datasheet Link; ComponentLink2URL: https://www.we-online.com/redexpert/spec/7499211123A?ad; Mount: Through Hole; Operating Temperature Max: 70°C; Operating Temperature Min: 0°C; Packaging: Tube; Length: 21.6mm; Width: 16mm; Height: 13.95mm; Data Rate: 10/100 Base-T; Tab: Down
footprint 7499211123A
pins: 1 TD+, 2 TD-, 3 CTD, 4 RD+, 5 RD-, 7 VC1+, 8 VC1-, 9 VC2+, 10 VC2-, 11, 12, 13, 14, Shell Shield

## 7499211125
designator T?  (value not drawn)
WE-RJ45 LAN Transformer, 1 Port, 10/100 Base-T, Tab Up; Manufacturer: Wurth Elektronik; LED: yellow-green; Number of Ports: 1; PoE: PoE (up to 350 mA); Shield Tabs: Yes; USB: No USB; Manufacturer Part Number: 7499211125; Category: Filtered Connectors; Match Code: WE-RJ45 LAN; ComponentLink1Description: Website Link; ComponentLink1URL: https://www.we-online.com/redexpert/article/7499211125?ad; ComponentLink2Description: Datasheet Link; ComponentLink2URL: https://www.we-online.com/redexpert/spec/7499211125?ad; Mount: Through Hole; Operating Temperature Max: 85°C; Operating Temperature Min: -40°C; Packaging: Tube; Length: 21.3mm; Width: 16mm; Height: 13.55mm; Data Rate: 10/100 Base-T; Tab: Up
footprint 7499211125
pins: 1 RD+, 2 RD-, 3 RCT, 4 TD+, 5 TCT, 6 TD-, 9 VC1+, 10 VC1-, 11, 12, 13, 14, Shell Shield

## 7499311614
designator T?  (value not drawn)
WE-RJ45 LAN Transformer, 1 Port, 1000 Base-T, Tab Up; Manufacturer: Wurth Elektronik; LED: green/orange-green; Number of Ports: 1; PoE: PoE (up to 350 mA each center Tap); Shield Tabs: Yes; USB: No USB; Manufacturer Part Number: 7499311614; Category: Filtered Connectors; Match Code: WE-RJ45 LAN; ComponentLink1Description: Website Link; ComponentLink1URL: https://www.we-online.com/redexpert/article/7499311614?ad; ComponentLink2Description: Datasheet Link; ComponentLink2URL: https://www.we-online.com/redexpert/spec/7499311614?ad; Mount: Through Hole; Operating Temperature Max: 85°C; Operating Temperature Min: -40°C; Packaging: Tray; Length: 33.02mm; Width: 17mm; Height: 13.87mm; Data Rate: 1000 Base-T; Tab: Up
footprint 7499311614
pins: 1 CD3, 2 D3-, 3 D3+, 4 D2+, 5 D2-, 6 CD2, 7 CD4, 8 D4+, 9 D4-, 10 D1-, 11 D1+, 12 CD1, 13 VC1, 14 VC2, 15 VC3, 16 VC4, 17, 18, 19, 20, Shell Shield

## 7499410213
designator T?  (value not drawn)
WE-RJ45 LAN Transformer, 1 Port, 10/100 Base-T, Tab Down; Manufacturer: Wurth Elektronik; LED: yellow-green; Number of Ports: 1; PoE: PoE+ (up to 600 mA); Shield Tabs: No; USB: No USB; Manufacturer Part Number: 7499410213; Category: Filtered Connectors; Match Code: WE-RJ45 LAN; ComponentLink1Description: Website Link; ComponentLink1URL: https://www.we-online.com/redexpert/article/7499410213?ad; ComponentLink2Description: Datasheet Link; ComponentLink2URL: https://www.we-online.com/redexpert/spec/7499410213?ad; Mount: Through Hole; Operating Temperature Max: 85°C; Operating Temperature Min: -40°C; Packaging: Tube; Length: 21.84mm; Width: 16mm; Height: 13.74mm; Data Rate: 10/100 Base-T; Tab: Down
footprint 7499410213
pins: 1 TD+, 2 TD-, 3 TCT, 4 RD+, 5 RD-, 7 VC1+, 8 VC1-, 9 VC2+, 10 VC2-, 11, 12, 13, 14, Shell Shield